# EAGLE library part 3.2"_TFT_LCD (library SD-SolderSync)
No description set
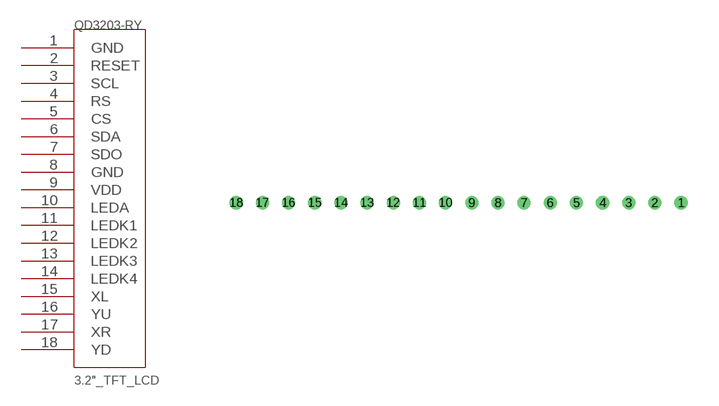
[diagram p0: symbol with the pads of LCD_SCH_PCB; footprint LCD_SCH_PCB]

Designator prefix QD3203-RY

## 3.2"_TFT_LCDFPC240A8230-V1-E_FPC240A8230-V1-E_QD3203-RY  [LCD_SCH_PCB]
1  GND  pas
2  RESET  pas
3  SCL  pas
4  RS  pas
5  CS  pas
6  SDA  pas
7  SDO  pas
8  GND  pas
9  VDD  pas
10  LEDA  pas
11  LEDK1  pas
12  LEDK2  pas
13  LEDK3  pas
14  LEDK4  pas
15  XL  pas
16  YU  pas
17  XR  pas
18  YD  pas

## Footprint LCD_SCH_PCB (pad centres in mm)
drill 0.127 pad 0.254: 1 21.59,0; 2 20.32,0; 3 19.05,0; 4 17.78,0; 5 16.51,0; 6 15.24,0; 7 13.97,0; 8 12.7,0; 9 11.43,0; 10 10.16,0; 11 8.89,0; 12 7.62,0; 13 6.35,0; 14 5.08,0; 15 3.81,0; 16 2.54,0; 17 1.27,0; 18 0,0